# EAGLE library part LM4755 (library BaseApp)
Digikey Number :- __LM4755TSX/NOPBCT-ND__
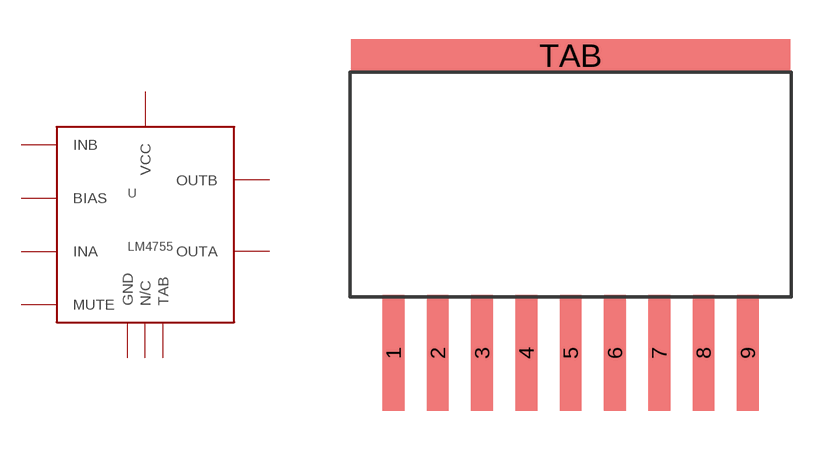
[diagram p75: symbol with the pads of TO-263-10(9LEADS+1TAB); footprint TO-263-10(9LEADS+1TAB)]

Designator prefix -

## LM4755  [TO-263-10(9LEADS+1TAB)]
1  OUTB
2  MUTE
3  INB
4  VCC
5  GND
6  BIAS
7  INA
8  OUTA
9  N/C
TAB  TAB

## Footprint TO-263-10(9LEADS+1TAB) (pad centres in mm)
smd 0.838 x 4.445: 1 -6.807,-5.715; 2 -5.105,-5.715; 3 -3.404,-5.715; 4 -1.702,-5.715; 5 0,-5.715; 6 1.702,-5.715; 7 3.404,-5.715; 8 5.105,-5.715; 9 6.807,-5.715
smd 16.891 x 1.27: TAB 0,5.715